# Altium schematic symbol library MT3608.SchLib: 1 symbol
Pins are listed as number, name and electrical type; pins without a type are passive.

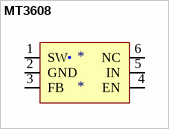
[diagram p0: symbol MT3608]

## MT3608
designator *
footprint MT3608 (Footprint not found)
footprint TSOP 2 (TSOP, 6-Leads, Body 2.90x1.60mm, Pitch 0.95mm, IPC Medium Density)
pins: 1 SW (power), 2 GND (power), 3 FB (power), 5 IN (power), 6 NC (power),  4  EN (power)